# Altium footprint library DF13A-15P-1.25H(21).PcbLib: 1 footprints
Each footprint in its own frame and in the unit in brackets; x right, y up, seen from the top. Pads: shape width x height; smd on the part's side, far side on the other; paste and mask are expansions set on the pad; w line width, h text height; cw(c..) or ccw(c..) is an arc to the next point about the centre after c.
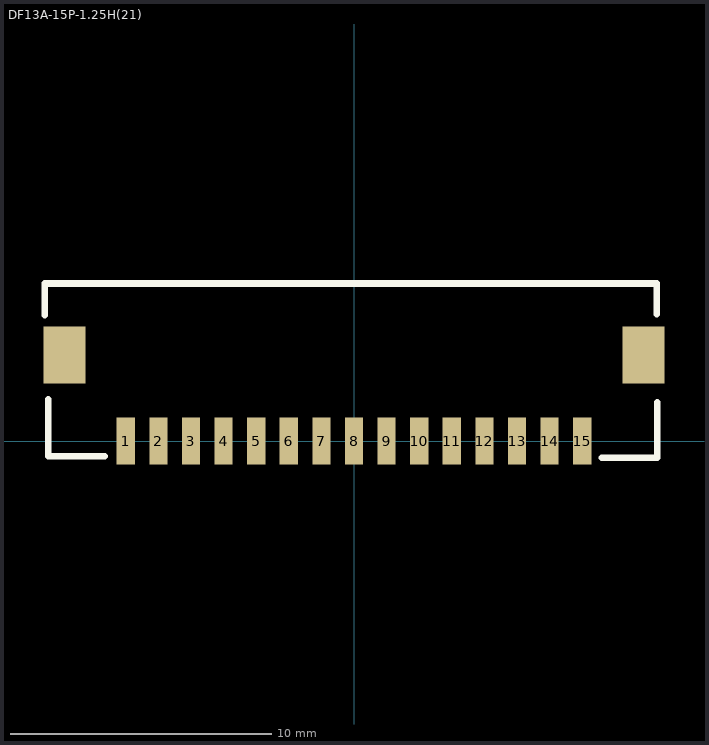
[diagram p0: the footprint, top view; thin cyan lines are the x and y axes]

## DF13A-15P-1.25H(21) [mm] "15 pos, 1.25mm pitch DF13 connector (H125988CT-ND)"
height 3.6
pads (17):
  rect 0.7x1.8 smd: 1(-8.75,0) 2(-7.5,0) 3(-6.25,0) 4(-5,0) 5(-3.75,0) 6(-2.5,0) 7(-1.25,0) 8(0,0) 9(1.25,0) 10(2.5,0) 11(3.75,0) 12(5,0) 13(6.25,0) 14(7.5,0) 15(8.75,0)
  rect 1.6x2.2 smd: ""(-11.1,3.3) ""(11.1,3.3)
Top Overlay:
  lines w0.254: -11.862,4.82 -11.862,6.043 11.601,6.043 11.601,4.858 ; -11.728,1.607 -11.728,-0.584 -9.55,-0.584 ; 9.5,-0.635 11.627,-0.635 11.627,1.492
3D body "DF13A-15P-1.25H.stp": height 3.58, standoff -0.02, extent -11.703,-0.505 11.697,5.996
3D body "DF13-15S-1.25C.stp": height 3.46, standoff 0.26, extent -10.175,2.756 10.225,6.756